# Altium integrated library MCT06030E1002BP500.IntLib: 1 symbol
Pins are listed as number, name and electrical type; pins without a type are passive.

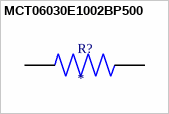
[diagram p0: symbol MCT06030E1002BP500]

## MCT06030E1002BP500
designator R?
Res Thin Film 0603 10K Ohm 0.1% 0.1W(1/10W) Â±15ppm/C Pad SMD Automotive Medical T/R; MF: Vishay; MP: MCT06030E1002BP500; SnapEDA_Link: https://www.snapeda.com/parts/MCT06030E1002BP500/Vishay/view-part/?ref=snap; Package: 1508 Vishay; Value: *; Check_prices: https://www.snapeda.com/parts/MCT06030E1002BP500/Vishay/view-part/?ref=eda
footprint RESC1508X55N
pins: 1, 2